# Altium footprint library PCB-JUMPER.PcbLib: 1 footprints
Each footprint in its own frame and in the unit in brackets; x right, y up, seen from the top. Pads: shape width x height; smd on the part's side, far side on the other; paste and mask are expansions set on the pad; w line width, h text height; cw(c..) or ccw(c..) is an arc to the next point about the centre after c.
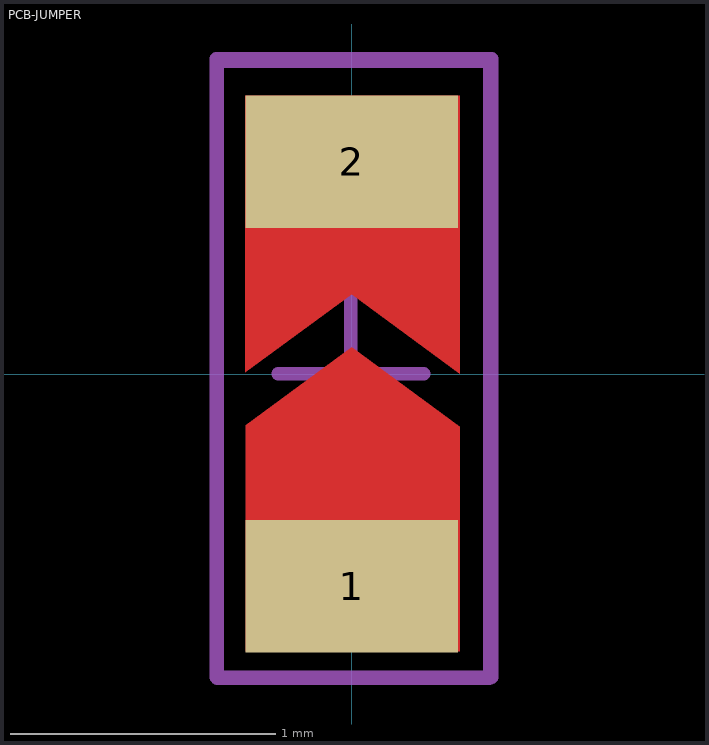
[diagram p0: the footprint, top view; thin cyan lines are the x and y axes]

## PCB-JUMPER [mm] "PCB JUMPER"
pads (2):
  rect 0.8x0.5 smd paste+0 mask+0: 1(0,-0.8) 2(0,0.8)
Top Layer:
  region: -0.401,1.049 -0.401,0.006 0,0.3 0.407,0.002 0.407,1.049
  region: -0.399,-1.046 -0.399,-0.193 0,0.1 0.407,-0.198 0.407,-1.046
Top Solder:
  rectangle: -0.502,-1.125 0.506,1.179
Mechanical 13:
  lines w0.05: -0.507,-1.148 0.52,-1.148 0.52,1.179 -0.507,1.179 -0.507,-1.148
Mechanical 15:
  lines w0.05: -0.278,0.001 0.272,0.001 ; -0.003,-0.274 -0.003,0.276 ; -0.511,-1.144 -0.511,1.188 0.528,1.188 0.528,-1.144 -0.511,-1.144